# Altium schematic symbol library ADS1298IPAG.SchLib: 1 symbol
Pins are listed as number, name and electrical type; pins without a type are passive.

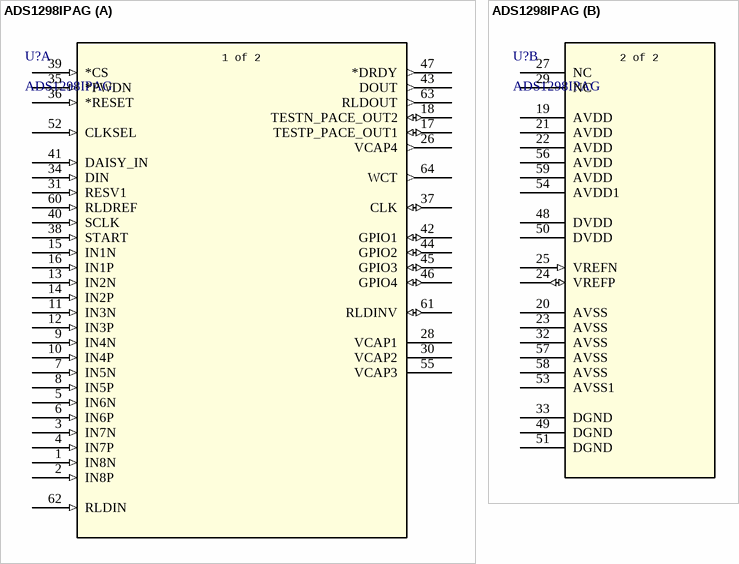
[diagram p0: symbol ADS1298IPAG]

## ADS1298IPAG
designator U?
8-Channel 24-bit ADC With Integrated ECG Front End 64-TQFP -40 to 85; Manufacturer_Name: Texas Instruments; Copyright: Copyright (C) 2026 Ultra Librarian. All rights reserved.; Manufacturer_Part_Number: ADS1298IPAG; RefDes: RefDes; Type: Type
footprint PAG64
part A pins: 1 IN8N (in), 2 IN8P (in), 3 IN7N (in), 4 IN7P (in), 5 IN6N (in), 6 IN6P (in), 7 IN5N (in), 8 IN5P (in), 9 IN4N (in), 10 IN4P (in), 11 IN3N (in), 12 IN3P (in), 13 IN2N (in), 14 IN2P (in), 15 IN1N (in), 16 IN1P (in), 17 TESTP_PACE_OUT1 (io), 18 TESTN_PACE_OUT2 (io), 26 VCAP4 (out), 28 VCAP1, 30 VCAP2, 31 RESV1 (in), 34 DIN (in), 35 *PWDN (in), 36 *RESET (in), 37 CLK (io), 38 START (in), 39 *CS (in), 40 SCLK (in), 41 DAISY_IN (in), 42 GPIO1 (io), 43 DOUT (out), 44 GPIO2 (io), 45 GPIO3 (io), 46 GPIO4 (io), 47 *DRDY (out), 52 CLKSEL (in), 55 VCAP3, 60 RLDREF (in), 61 RLDINV (io), 62 RLDIN (in), 63 RLDOUT (out), 64 WCT (out)
part B pins: 19 AVDD (power), 20 AVSS (power), 21 AVDD (power), 22 AVDD (power), 23 AVSS (power), 24 VREFP (io), 25 VREFN (in), 27 NC, 29 NC, 32 AVSS (power), 33 DGND (power), 48 DVDD (power), 49 DGND (power), 50 DVDD (power), 51 DGND (power), 53 AVSS1 (power), 54 AVDD1 (power), 56 AVDD (power), 57 AVSS (power), 58 AVSS (power), 59 AVDD (power)
part A text: 1 of 2
part B text: 2 of 2